# EAGLE library part TCE0806G-900-2P-T200 (library Joule Expansion Board)
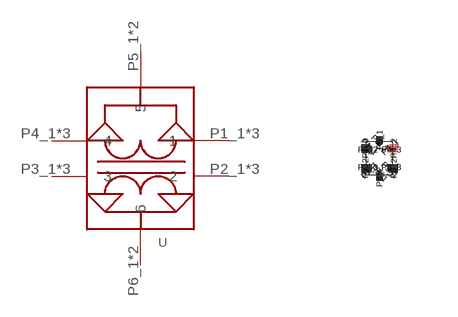
[diagram p8: symbol with the pads of 0302_(0806_METRIC); footprint 0302_(0806_METRIC)]

Designator prefix -

## TCE0806G-900-2P-T200  [0302_(0806_METRIC)]
P1_1  1
P1_2  1
P1_3  1
P2_1  2
P2_2  2
P2_3  2
P3_1  3
P3_2  3
P3_3  3
P4_1  4
P4_2  4
P4_3  4
P5_1  5
P5_2  5
P6_1  6
P6_2  6

## Footprint 0302_(0806_METRIC) (pad centres in mm)
smd 0.09 x 0.075 rotated 135: P1_1 -0.253,0.292
smd 0.2 x 0.14: P1_2 -0.295,0.22; P2_3 -0.295,-0.22; P3_3 0.295,-0.22; P4_3 0.295,0.22
smd 0.19 x 0.2: P1_3 -0.355,0.25; P2_2 -0.355,-0.25; P3_2 0.355,-0.25; P4_2 0.355,0.25
smd 0.09 x 0.075 rotated 225: P2_1 -0.253,-0.292
smd 0.09 x 0.075 rotated 315: P3_1 0.253,-0.292
smd 0.09 x 0.075 rotated 45: P4_1 0.253,0.292
smd 0.15 x 0.17: P5_1 0,0.465; P6_2 0,-0.465
smd 0.105 x 0.105 rotated 135: P5_2 0,0.38
smd 0.105 x 0.105 rotated 315: P6_1 0,-0.375